# EAGLE library part RT8293B (library richtek)
Step-Down Converter 3A, 23V, 1.2MHz Synchronous
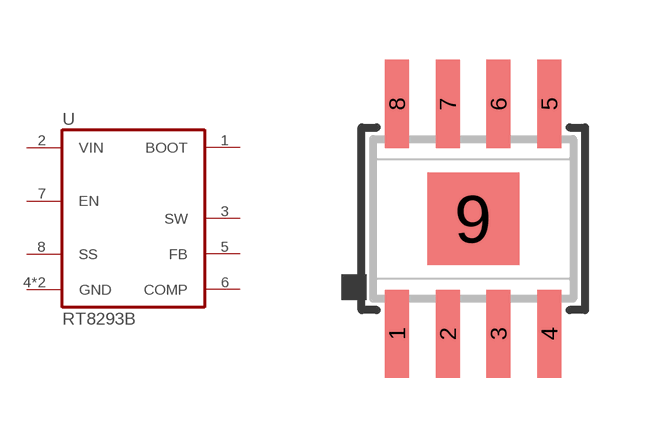
[diagram p0: symbol with the pads of SOP08-EP; footprint SOP08-EP]

Designator prefix U

## RT8293BSP  [SOP08-EP]
1  BOOT  in
2  VIN  in
3  SW  out
4  GND  pwr
5  FB  in
6  COMP  in
7  EN  in
8  SS  pas
9  GND  pwr

## Footprint SOP08-EP (pad centres in mm)
8-Lead SOP (Exposed Pad) body 3.9 mm width
smd 0.6 x 2.2: 1 -1.905,-2.875; 2 -0.635,-2.875; 3 0.635,-2.875; 4 1.905,-2.875; 5 1.905,2.875; 6 0.635,2.875; 7 -0.635,2.875; 8 -1.905,2.875
smd 2.3 x 2.3: 9 0,0